# Altium schematic symbol library Gate_Driver.SchLib: 10 symbols
Pins are listed as number, name and electrical type; pins without a type are passive.

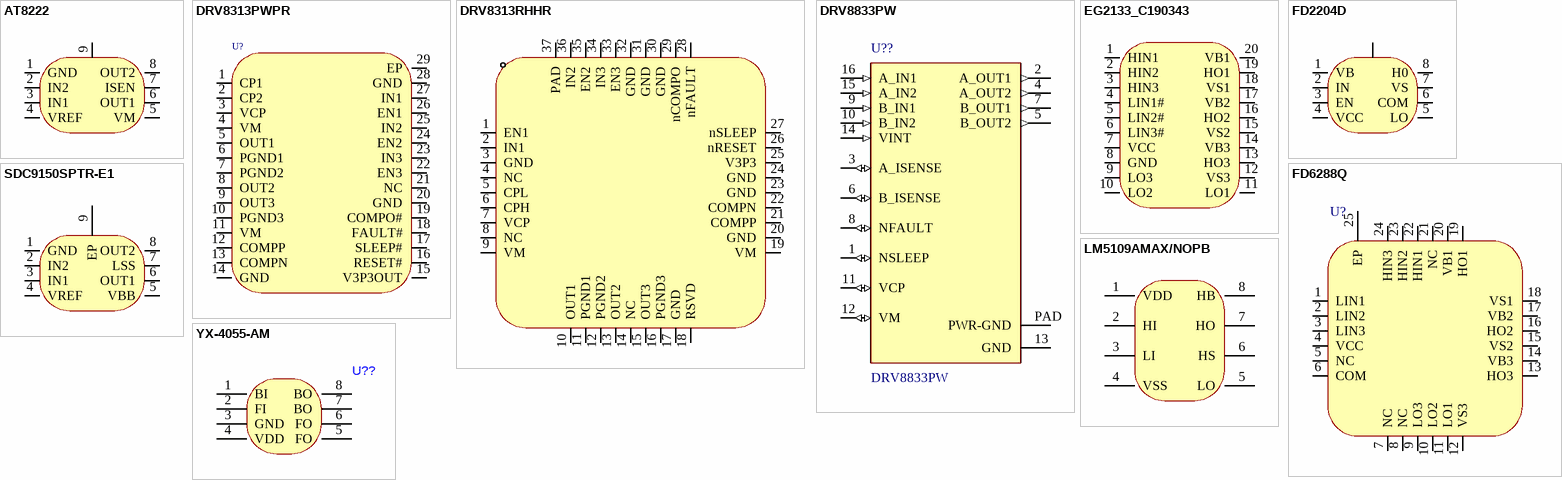
[diagram p0: symbols AT8222 to YX-4055-AM]

## AT8222
designator U??  (value not drawn)
Manufacturer: 杭州中科微; Add into BOM: yes; Symbol: AT8222; Device: AT8222; LCSC Part Name: 单通道直流有刷电机驱动芯片; Supplier Part: C4748928; Manufacturer Part: AT8222; Supplier Footprint: ESOP-8; JLCPCB Part Class: Extended Part; Datasheet: https://atta.szlcsc.com/upload/public/pdf/source/20221018/362AEE405ADB628DD56C716632FB9019.pdf; Supplier: LCSC; Convert to PCB: yes
footprint SOP-8_L4.9-W3.9-P1.27-LS6.0-BL-EP
pins: 1 GND, 2 IN2, 3 IN1, 4 VREF, 5 VM, 6 OUT1, 7 ISEN, 8 OUT2, 9 PPAD

## DRV8313PWPR
designator U?  (value not drawn)
类型:无刷直流BLDC;电源电压:8V~60V;输出电流:-;接口:并行;; Manufacturer: TI(德州仪器); Add into BOM: yes; Supply Voltage: 8V~60V; Interface: 并行; Name: DRV8313PWPR; Symbol: DRV8313PWPR; Device: DRV8313PWPR; LCSC Part Name: 无刷直流BLDC电机驱动芯片 60V; Supplier Part: C92482; Manufacturer Part: DRV8313PWPR; Supplier Footprint: TSSOP-28-EP; JLCPCB Part Class: 扩展库; Datasheet: https://www.ti.com/cn/lit/gpn/drv8313; Supplier: LCSC; Convert to PCB: yes; Type: 无刷直流BLDC; Output Current: -; Operating Temperature: -40℃~+150℃@(Tj)
footprint HTSSOP_28
pins: 1 CP1, 2 CP2, 3 VCP, 4 VM, 5 OUT1, 6 PGND1, 7 PGND2, 8 OUT2, 9 OUT3, 10 PGND3, 11 VM, 12 COMPP, 13 COMPN, 14 GND, 15 V3P3OUT, 16 RESET#, 17 SLEEP#, 18 FAULT#, 19 COMPO#, 20 GND, 21 NC, 22 EN3, 23 IN3, 24 EN2, 25 IN2, 26 EN1, 27 IN1, 28 GND, 29 EP

## DRV8313RHHR
designator U??  (value not drawn)
Manufacturer: TI(德州仪器); Add into BOM: yes; Supply Voltage: 8V~60V; Interface: 并行; Name: DRV8313RHHR; Symbol: DRV8313RHHR; Device: DRV8313RHHR; LCSC Part Name: DRV8313RHHR; Supplier Part: C165154; Manufacturer Part: DRV8313RHHR; Supplier Footprint: QFN-36-EP(6x6); JLCPCB Part Class: Extended Part; Datasheet: https://atta.szlcsc.com/upload/public/pdf/source/20180125/C165154_15168650056891302899.pdf; Supplier: LCSC; Convert to PCB: yes; Type: 无刷直流BLDC; Output Current: -; Operating Temperature: -40℃~+150℃@(Tj)
footprint VQFN-36_L6.0-W6.0-P0.50-TL-EP
pins: 1 EN1, 2 IN1, 3 GND, 4 NC, 5 CPL, 6 CPH, 7 VCP, 8 NC, 9 VM, 10 OUT1, 11 PGND1, 12 PGND2, 13 OUT2, 14 NC, 15 OUT3, 16 PGND3, 17 GND, 18 RSVD, 19 VM, 20 GND, 21 COMPP, 22 COMPN, 23 GND, 24 GND, 25 V3P3, 26 nRESET, 27 nSLEEP, 28 nFAULT, 29 nCOMPO, 30 GND, 31 GND, 32 GND, 33 EN3, 34 IN3, 35 EN2, 36 IN2, 37 PAD

## DRV8833PW
designator U??
SnapEDA_Link: https://www.snapeda.com/parts/DRV8833PW/Texas%20Instruments/view-part/507725/?ref=snap; Value: *
footprint TSSOP_16
pins: 1 NSLEEP (io), 2 A_OUT1 (out), 3 A_ISENSE (io), 4 A_OUT2 (out), 5 B_OUT2 (out), 6 B_ISENSE (io), 7 B_OUT1 (out), 8 NFAULT (io), 9 B_IN1 (in), 10 B_IN2 (in), 11 VCP (io), 12 VM (io), 13 GND (power), 14 VINT (in), 15 A_IN2 (in), 16 A_IN1 (in), PAD PWR-GND (power)

## EG2133_C190343
designator U??  (value not drawn)
Manufacturer: EG(屹晶微); Name: EG2133; Add into BOM: yes; Symbol: EG2133; Device: EG2133_C190343; LCSC Part Name: EG2133; Supplier Part: C190343; Manufacturer Part: EG2133; Supplier Footprint: TSSOP-20; JLCPCB Part Class: Extended Part; Datasheet: https://atta.szlcsc.com/upload/public/pdf/source/20220627/F8A393EEBF3325F22DCB485BC683267F.pdf; Supplier: LCSC; Convert to PCB: yes
footprint TSSOP-20_L6.5-W4.4-P0.65-LS6.4-BL
pins: 1 HIN1, 2 HIN2, 3 HIN3, 4 LIN1#, 5 LIN2#, 6 LIN3#, 7 VCC, 8 GND, 9 LO3, 10 LO2, 11 LO1, 12 VS3, 13 HO3, 14 VB3, 15 VS2, 16 HO2, 17 VB2, 18 VS1, 19 HO1, 20 VB1

## FD2204D
designator U??  (value not drawn)
Manufacturer: Fortior Tech(峰岹); Add into BOM: yes; Name: FD2204D; Symbol: FD2204D; Device: FD2204D; LCSC Part Name: FD2204D 停产; Supplier Part: C328451; Manufacturer Part: FD2204D; Supplier Footprint: DFN-8-EP(3x3); JLCPCB Part Class: Extended Part; Datasheet: https://atta.szlcsc.com/upload/public/pdf/source/20181108/C328451_031413AEC6DCDBAA04F392BB7C318587.pdf; Supplier: LCSC; Convert to PCB: yes
footprint DFN-8_L3.0-W3.0-P0.65-BL-EP
pins: 1 VB, 2 IN, 3 EN, 4 VCC, 5 LO, 6 COM, 7 VS, 8 H0, 9 PAD

## FD6288Q
designator U?  (value not drawn)
Manufacturer: Fortior Tech(峰岹); Symbol: FD6288Q_C328453; Add into BOM: yes; Name: FD6288Q; Device: FD6288Q; LCSC Part Name: FD6288Q; Supplier Part: C328453; Manufacturer Part: FD6288Q; Supplier Footprint: QFN-24-EP(4x4); JLCPCB Part Class: 扩展库; Datasheet: https://atta.szlcsc.com/upload/public/pdf/source/20181108/C328453_785547738DB9FC0123219FC22539EFAD.pdf; Supplier: LCSC; Convert to PCB: yes
footprint QFN-24_L4.0-W4.0-P0.50-BL-EP2.6
pins: 1 LIN1, 2 LIN2, 3 LIN3, 4 VCC, 5 NC, 6 COM, 7 NC, 8 NC, 9 LO3, 10 LO2, 11 LO1, 12 VS3, 13 HO3, 14 VB3, 15 VS2, 16 HO2, 17 VB2, 18 VS1, 19 HO1, 20 VB1, 21 NC, 22 HIN1, 23 HIN2, 24 HIN3, 25 EP

## LM5109AMAX/NOPB
designator U??  (value not drawn)
Manufacturer: TI(德州仪器); Add into BOM: yes; Name: LM5109AMAX/NOPB; Symbol: LM5109AMAX/NOPB; Device: LM5109AMAX/NOPB; LCSC Part Name: LM5109AMAX/NOPB; Supplier Part: C129332; Manufacturer Part: LM5109AMAX/NOPB; Supplier Footprint: SOIC-8; JLCPCB Part Class: Extended Part; Datasheet: https://atta.szlcsc.com/upload/public/pdf/source/20170914/C129332_1505359966828968172.pdf; Supplier: LCSC; Convert to PCB: yes
footprint YX-4055AM-SOP8
pins: 1 VDD, 2 HI, 3 LI, 4 VSS, 5 LO, 6 HS, 7 HO, 8 HB

## SDC9150SPTR-E1
designator ?  (value not drawn)
Designer: U?; Symbol: SDC9150SPTR-E1; Device: SDC9150SPTR-E1
footprint SOP-8_L4.9-W3.9-P1.27-LS6.0-BL-EP
pins: 1 GND, 2 IN2, 3 IN1, 4 VREF, 5 VBB, 6 OUT1, 7 LSS, 8 OUT2, 9 EP

## YX-4055-AM
designator U??
footprint YX-4055AM-SOP8
pins: 1 BI, 2 FI, 3 GND, 4 VDD, 5 FO, 6 FO, 7 BO, 8 BO